# Altium schematic symbol library OSC-2-PIN.SchLib: 1 symbol
Pins are listed as number, name and electrical type; pins without a type are passive.

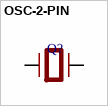
[diagram p0: symbol OSC-2-PIN]

## OSC-2-PIN
designator Q?
pins: 1, 2